# Altium footprint library TS9A-L.PcbLib: 1 footprints
Each footprint in its own frame and in the unit in brackets; x right, y up, seen from the top. Pads: shape width x height; smd on the part's side, far side on the other; paste and mask are expansions set on the pad; w line width, h text height; cw(c..) or ccw(c..) is an arc to the next point about the centre after c.
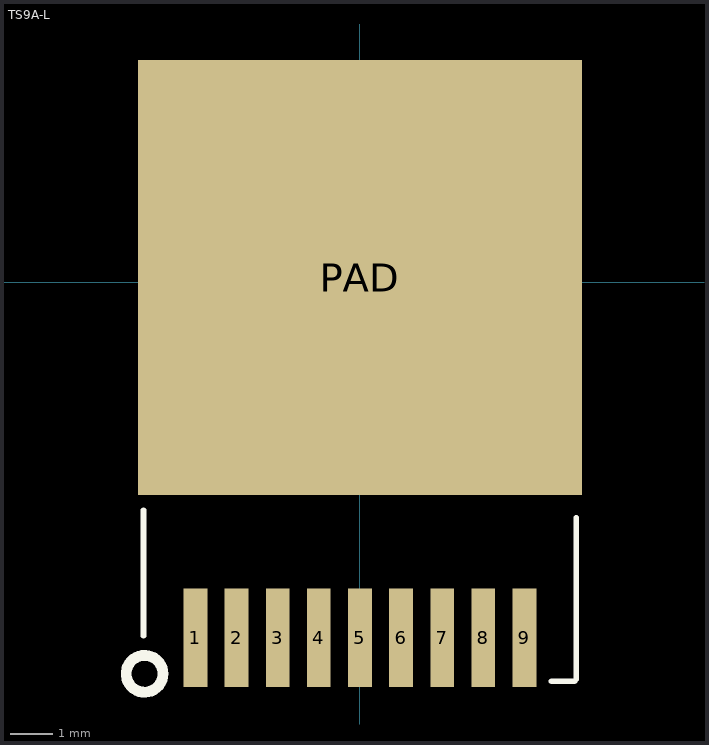
[diagram p0: the footprint, top view; thin cyan lines are the x and y axes]

## TS9A-L [mil]
pads (10):
  rect 22x91 smd: 1(-152,-328.5) 2(-114,-328.5) 3(-76,-328.5) 4(-38,-328.5) 5(0,-328.5) 6(38,-328.5) 7(76,-328.5) 8(114,-328.5) 9(152,-328.5)
  rect 410x402 smd: PAD(0,4)
Top Overlay:
  circle w10: c-199,-362 r17
  lines w5.12: -200,-327 -200,-211 ; 177,-369 198,-369 200,-367 200,-218
3D body "KTW0009A.step": height 180, standoff -3, extent -200,-368.5 200,196.5